# Altium footprint library footprints.PcbLib: 64 footprints (part 3 of 4)
Each footprint in its own frame and in the unit in brackets; x right, y up, seen from the top. Pads: shape width x height; smd on the part's side, far side on the other; paste and mask are expansions set on the pad; w line width, h text height; cw(c..) or ccw(c..) is an arc to the next point about the centre after c.
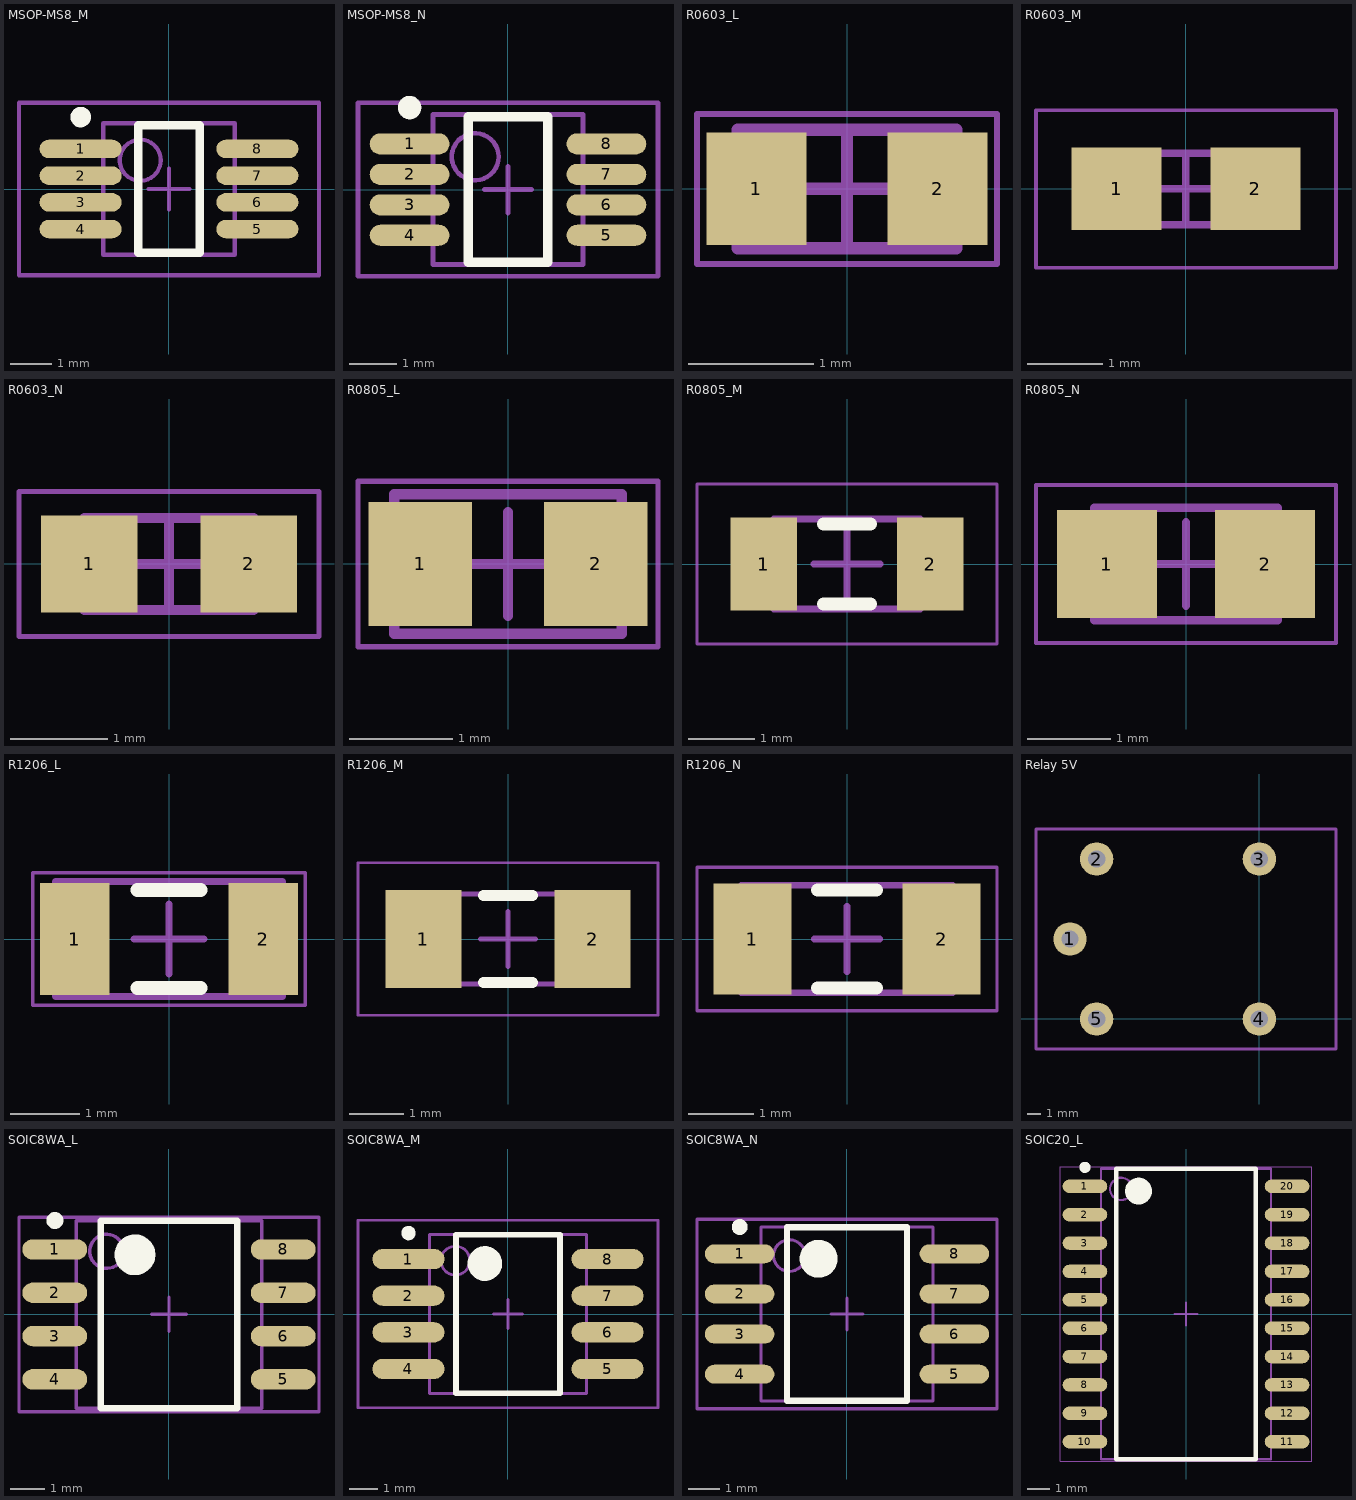
[diagram p2: the footprints below, top view; thin cyan lines are the x and y axes]

## MSOP-MS8_M [mm] "TSOP, 8-Leads, Body 3x3mm, Pitch 0.65mm, IPC Low Density"
height 1.1
pads (8):
  oval 2x0.45 smd: 1(-2.15,0.975) 2(-2.15,0.325) 3(-2.15,-0.325) 4(-2.15,-0.975) 5(2.15,-0.975) 6(2.15,-0.325) 7(2.15,0.325) 8(2.15,0.975)
Top Overlay:
  circle w0.25: c-2.15,1.75 r0.125
  lines w0.2: -0.75,-1.55 0.75,-1.55 0.75,1.55 -0.75,1.55 -0.75,-1.55
Mechanical 13:
  circle w0.1: c-0.7,0.7 r0.5
  lines w0.1: -1.6,-1.6 1.6,-1.6 1.6,1.6 -1.6,1.6 -1.6,-1.6
Mechanical 15:
  lines w0.1: -0.5,0 0.5,0 ; 0,-0.5 0,0.5 ; -3.65,-2.1 3.65,-2.1 3.65,2.1 -3.65,2.1 -3.65,-2.1
3D body: height 1.1, standoff 0, extent -1.6,-1.6 1.6,1.6

## MSOP-MS8_N [mm] "TSOP, 8-Leads, Body 3x3mm, Pitch 0.65mm, IPC Medium Density"
height 1.1
pads (8):
  oval 1.7x0.45 smd: 1(-2.1,0.975) 2(-2.1,0.325) 3(-2.1,-0.325) 4(-2.1,-0.975) 5(2.1,-0.975) 6(2.1,-0.325) 7(2.1,0.325) 8(2.1,0.975)
Top Overlay:
  circle w0.25: c-2.1,1.75 r0.125
  lines w0.2: -0.85,-1.55 -0.85,1.55 0.85,1.55 0.85,-1.55 -0.85,-1.55
Mechanical 13:
  circle w0.1: c-0.7,0.7 r0.5
  lines w0.1: -1.6,-1.6 -1.6,1.6 1.6,1.6 1.6,-1.6 -1.6,-1.6
Mechanical 15:
  lines w0.1: -0.5,0 0.5,0 ; 0,-0.5 0,0.5 ; -3.2,-1.85 -3.2,1.85 3.2,1.85 3.2,-1.85 -3.2,-1.85
3D body: height 1.1, standoff 0, extent -1.6,-1.6 1.6,1.6

## R0603_L [mm] "Chip Resistor, 2-Leads, Body 1,60x0,85mm, IPC High Density"
height 0.45
pads (2):
  rect 0.8x0.9 smd: 1(-0.725,0) 2(0.725,0)
Mechanical 13:
  lines w0.1: -0.875,-0.475 -0.875,0.475 0.875,0.475 0.875,-0.475 -0.875,-0.475
Mechanical 15:
  lines w0.05: -1.2,-0.6 -1.2,0.6 1.2,0.6 1.2,-0.6 -1.2,-0.6
  lines w0.1: -0.475,0 0.475,0 ; 0,-0.475 0,0.475
3D body: height 0.45, standoff 0, extent -0.575,-0.475 0.575,0.475
3D body: height 0.45, standoff 0, extent -0.875,-0.475 -0.575,0.475
3D body: height 0.45, standoff 0, extent 0.575,-0.475 0.875,0.475

## R0603_M [mm] "Chip Resistor, 2-Leads, Body 1,60x0,85mm, IPC Low Density"
height 0.45
pads (2):
  rect 1.2x1.1 smd: 1(-0.925,0) 2(0.925,0)
Mechanical 13:
  lines w0.1: -0.875,-0.475 0.875,-0.475 0.875,0.475 -0.875,0.475 -0.875,-0.475
Mechanical 15:
  lines w0.05: -2,-1.05 2,-1.05 2,1.05 -2,1.05 -2,-1.05
  lines w0.1: -0.475,0 0.475,0 ; 0,-0.475 0,0.475
3D body: height 0.45, standoff 0, extent 0.575,-0.475 0.875,0.475
3D body: height 0.45, standoff 0, extent -0.875,-0.475 -0.575,0.475
3D body: height 0.45, standoff 0, extent -0.575,-0.475 0.575,0.475

## R0603_N [mm] "Chip Resistor, 2-Leads, Body 1,60x0,85mm, IPC Medium Density"
height 0.45
pads (2):
  rect 1x1 smd: 1(-0.825,0) 2(0.825,0)
Mechanical 13:
  lines w0.1: -0.875,-0.475 0.875,-0.475 0.875,0.475 -0.875,0.475 -0.875,-0.475
Mechanical 15:
  lines w0.05: -1.55,-0.75 1.55,-0.75 1.55,0.75 -1.55,0.75 -1.55,-0.75
  lines w0.1: -0.475,0 0.475,0 ; 0,-0.475 0,0.475
3D body: height 0.45, standoff 0, extent 0.575,-0.475 0.875,0.475
3D body: height 0.45, standoff 0, extent -0.875,-0.475 -0.575,0.475
3D body: height 0.45, standoff 0, extent -0.575,-0.475 0.575,0.475

## R0805_L [mm] "Chip Resistor, 2-Leads, Body 2,00x1,25mm, IPC High Density"
height 0.6
pads (2):
  rect 1x1.2 smd: 1(-0.85,0) 2(0.85,0)
Mechanical 13:
  lines w0.1: -1.1,-0.675 -1.1,0.675 1.1,0.675 1.1,-0.675 -1.1,-0.675
Mechanical 15:
  lines w0.05: -1.45,-0.8 -1.45,0.8 1.45,0.8 1.45,-0.8 -1.45,-0.8
  lines w0.1: -0.5,0 0.5,0 ; 0,-0.5 0,0.5
3D body: height 0.6, standoff 0, extent -0.7,-0.675 0.7,0.675
3D body: height 0.6, standoff 0, extent -1.1,-0.675 -0.7,0.675
3D body: height 0.6, standoff 0, extent 0.7,-0.675 1.1,0.675

## R0805_M [mm] "Chip Resistor, 2-Leads, Body 2,00x1,25mm, IPC Low Density"
height 0.6
pads (2):
  rect 1x1.4 smd: 1(-1.25,0) 2(1.25,0)
Top Overlay:
  lines w0.2: -0.35,-0.6 0.35,-0.6 ; -0.35,0.6 0.35,0.6
Mechanical 13:
  lines w0.1: -1.1,-0.675 1.1,-0.675 1.1,0.675 -1.1,0.675 -1.1,-0.675
Mechanical 15:
  lines w0.05: -2.25,-1.2 2.25,-1.2 2.25,1.2 -2.25,1.2 -2.25,-1.2
  lines w0.1: -0.5,0 0.5,0 ; 0,-0.5 0,0.5
3D body: height 0.6, standoff 0, extent 0.7,-0.675 1.1,0.675
3D body: height 0.6, standoff 0, extent -1.1,-0.675 -0.7,0.675
3D body: height 0.6, standoff 0, extent -0.7,-0.675 0.7,0.675

## R0805_N [mm] "Chip Resistor, 2-Leads, Body 2,00x1,25mm, IPC Medium Density"
height 0.6
pads (2):
  rect 1.2x1.3 smd: 1(-0.95,0) 2(0.95,0)
Mechanical 13:
  lines w0.1: -1.1,-0.675 1.1,-0.675 1.1,0.675 -1.1,0.675 -1.1,-0.675
Mechanical 15:
  lines w0.05: -1.8,-0.95 1.8,-0.95 1.8,0.95 -1.8,0.95 -1.8,-0.95
  lines w0.1: -0.5,0 0.5,0 ; 0,-0.5 0,0.5
3D body: height 0.6, standoff 0, extent 0.7,-0.675 1.1,0.675
3D body: height 0.6, standoff 0, extent -1.1,-0.675 -0.7,0.675
3D body: height 0.6, standoff 0, extent -0.7,-0.675 0.7,0.675

## R1206_L [mm] "Chip Resistor, 2-Leads, Body 3,13x1,55mm, IPC High Density"
height 0.6
pads (2):
  rect 1x1.6 smd: 1(-1.35,0) 2(1.35,0)
Top Overlay:
  lines w0.2: -0.45,-0.7 0.45,-0.7 ; -0.45,0.7 0.45,0.7
Mechanical 13:
  lines w0.1: -1.625,-0.825 -1.625,0.825 1.625,0.825 1.625,-0.825 -1.625,-0.825
Mechanical 15:
  lines w0.05: -1.95,-0.95 -1.95,0.95 1.95,0.95 1.95,-0.95 -1.95,-0.95
  lines w0.1: -0.5,0 0.5,0 ; 0,-0.5 0,0.5
3D body: height 0.6, standoff 0, extent -1.125,-0.825 1.125,0.825
3D body: height 0.6, standoff 0, extent -1.625,-0.825 -1.125,0.825
3D body: height 0.6, standoff 0, extent 1.125,-0.825 1.625,0.825

## R1206_M [mm] "Chip Resistor, 2-Leads, Body 3,13x1,60mm, IPC Low Density"
height 0.6
pads (2):
  rect 1.4x1.8 smd: 1(-1.55,0) 2(1.55,0)
Top Overlay:
  lines w0.2: -0.45,-0.8 0.45,-0.8 ; -0.45,0.8 0.45,0.8
Mechanical 13:
  lines w0.1: -1.625,-0.825 -1.625,0.825 1.625,0.825 1.625,-0.825 -1.625,-0.825
Mechanical 15:
  lines w0.05: -2.75,-1.4 -2.75,1.4 2.75,1.4 2.75,-1.4 -2.75,-1.4
  lines w0.1: -0.5,0 0.5,0 ; 0,-0.5 0,0.5
3D body: height 0.6, standoff 0, extent -1.125,-0.825 1.125,0.825
3D body: height 0.6, standoff 0, extent -1.625,-0.825 -1.125,0.825
3D body: height 0.6, standoff 0, extent 1.125,-0.825 1.625,0.825

## R1206_N [mm] "Chip Resistor, 2-Leads, Body 3,13x1,55mm, IPC Medium Density"
height 0.6
pads (2):
  rect 1.2x1.7 smd: 1(-1.45,0) 2(1.45,0)
Top Overlay:
  lines w0.2: -0.45,-0.75 0.45,-0.75 ; -0.45,0.75 0.45,0.75
Mechanical 13:
  lines w0.1: -1.625,-0.825 1.625,-0.825 1.625,0.825 -1.625,0.825 -1.625,-0.825
Mechanical 15:
  lines w0.05: -2.3,-1.1 2.3,-1.1 2.3,1.1 -2.3,1.1 -2.3,-1.1
  lines w0.1: -0.5,0 0.5,0 ; 0,-0.5 0,0.5
3D body: height 0.6, standoff 0, extent 1.125,-0.825 1.625,0.825
3D body: height 0.6, standoff 0, extent -1.625,-0.825 -1.125,0.825
3D body: height 0.6, standoff 0, extent -1.125,-0.825 1.125,0.825

## Relay 5V [mm]
pads (5):
  round 2.5 hole 1.3: 1(-14.2,6) 2(-12.2,12) 3(0,12) 4(0,0) 5(-12.2,0)
Mechanical 13:
  lines w0.254: -16.75,-2.25 -16.75,14.25 5.75,14.25 5.75,-2.25 -16.75,-2.25
3D body: height 20, standoff 0, extent -16.75,-2.25 5.75,14.25

## SOIC8WA_L [mm] "SOP, 8-Leads, Body 5.3x5.3mm, Pitch 1.27mm, IPC High Density"
height 2.13
pads (8):
  oval 1.9x0.6 smd: 1(-3.35,1.905) 2(-3.35,0.635) 3(-3.35,-0.635) 4(-3.35,-1.905) 5(3.35,-1.905) 6(3.35,-0.635) 7(3.35,0.635) 8(3.35,1.905)
Top Overlay:
  circle w0.25: c-3.35,2.755 r0.125
  circle w0.6: c-1,1.75 r0.3
  lines w0.2: -2,-2.75 -2,2.75 2,2.75 2,-2.75 -2,-2.75
Mechanical 13:
  circle w0.1: c-1.825,1.85 r0.5
  lines w0.1: -2.725,-2.75 -2.725,2.75 2.725,2.75 2.725,-2.75 -2.725,-2.75
Mechanical 15:
  lines w0.1: -0.5,0 0.5,0 ; 0,-0.5 0,0.5 ; -4.4,-2.85 -4.4,2.85 4.4,2.85 4.4,-2.85 -4.4,-2.85
3D body: height 2.13, standoff 0, extent -2.725,-2.75 2.725,2.75

## SOIC8WA_M [mm] "SOP, 8-Leads, Body 5.3x5.3mm, Pitch 1.27mm, IPC Low Density"
height 2.13
pads (8):
  oval 2.5x0.7 smd: 1(-3.45,1.905) 2(-3.45,0.635) 3(-3.45,-0.635) 4(-3.45,-1.905) 5(3.45,-1.905) 6(3.45,-0.635) 7(3.45,0.635) 8(3.45,1.905)
Top Overlay:
  circle w0.25: c-3.45,2.805 r0.125
  circle w0.6: c-0.8,1.75 r0.3
  lines w0.2: -1.8,-2.75 -1.8,2.75 1.8,2.75 1.8,-2.75 -1.8,-2.75
Mechanical 13:
  circle w0.1: c-1.825,1.85 r0.5
  lines w0.1: -2.725,-2.75 -2.725,2.75 2.725,2.75 2.725,-2.75 -2.725,-2.75
Mechanical 15:
  lines w0.1: -0.5,0 0.5,0 ; 0,-0.5 0,0.5 ; -5.2,-3.25 -5.2,3.25 5.2,3.25 5.2,-3.25 -5.2,-3.25
3D body: height 2.13, standoff 0, extent -2.725,-2.75 2.725,2.75

## SOIC8WA_N [mm] "SOP, 8-Leads, Body 5.3x5.3mm, Pitch 1.27mm, IPC Medium Density"
height 2.13
pads (8):
  oval 2.2x0.6 smd: 1(-3.4,1.905) 2(-3.4,0.635) 3(-3.4,-0.635) 4(-3.4,-1.905) 5(3.4,-1.905) 6(3.4,-0.635) 7(3.4,0.635) 8(3.4,1.905)
Top Overlay:
  circle w0.25: c-3.4,2.755 r0.125
  circle w0.6: c-0.9,1.75 r0.3
  lines w0.2: -1.9,-2.75 -1.9,2.75 1.9,2.75 1.9,-2.75 -1.9,-2.75
Mechanical 13:
  circle w0.1: c-1.825,1.85 r0.5
  lines w0.1: -2.725,-2.75 -2.725,2.75 2.725,2.75 2.725,-2.75 -2.725,-2.75
Mechanical 15:
  lines w0.1: -0.5,0 0.5,0 ; 0,-0.5 0,0.5 ; -4.75,-3 -4.75,3 4.75,3 4.75,-3 -4.75,-3
3D body: height 2.13, standoff 0, extent -2.725,-2.75 2.725,2.75

## SOIC20_L [mm] "SOIC, 20-Leads, Body 12,80x7,50mm, Pitch 1,27mm, IPC High Density"
height 2.65
pads (20):
  oval 2x0.6 smd: 1(-4.525,5.715) 2(-4.525,4.445) 3(-4.525,3.175) 4(-4.525,1.905) 5(-4.525,0.635) 6(-4.525,-0.635) 7(-4.525,-1.905) 8(-4.525,-3.175) 9(-4.525,-4.445) 10(-4.525,-5.715) 11(4.525,-5.715) 12(4.525,-4.445) 13(4.525,-3.175) 14(4.525,-1.905) 15(4.525,-0.635) 16(4.525,0.635) 17(4.525,1.905) 18(4.525,3.175) 19(4.525,4.445) 20(4.525,5.715)
Top Overlay:
  circle w0.6: c-2.125,5.5 r0.3
  circle w0.25: c-4.525,6.565 r0.125
  lines w0.2: -3.125,-6.5 3.125,-6.5 3.125,6.5 -3.125,6.5 -3.125,-6.5
Mechanical 13:
  circle w0.1: c-2.9,5.6 r0.5
  lines w0.1: -3.8,-6.5 3.8,-6.5 3.8,6.5 -3.8,6.5 -3.8,-6.5
Mechanical 15:
  lines w0.05: -5.625,-6.6 5.625,-6.6 5.625,6.6 -5.625,6.6 -5.625,-6.6
  lines w0.1: -0.5,0 0.5,0 ; 0,-0.5 0,0.5
3D body: height 2.65, standoff 0.1, extent -3.8,-6.5 3.8,6.5